# EAGLE library part LDD-SMHTA304RISITR (library LDD-SMHTA304RISITR)
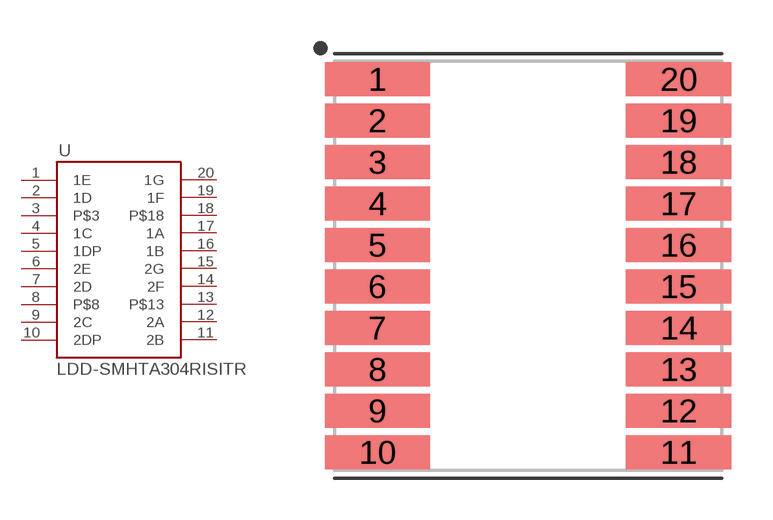
[diagram p0: symbol with the pads of LDD-SMHTA304RISITR-20DFN; footprint LDD-SMHTA304RISITR-20DFN]

Designator prefix -

## LDD-SMHTA304RISITR  [LDD-SMHTA304RISITR-20DFN]
1  1E
2  1D
3  P$3
4  1C
5  1DP
6  2E
7  2D
8  P$8
9  2C
10  2DP
11  2B
12  2A
13  P$13
14  2F
15  2G
16  1B
17  1A
18  P$18
19  1F
20  1G

## Footprint LDD-SMHTA304RISITR-20DFN (pad centres in mm)
20-SON (DFN), 1.50 mm pitch, 14.80 X 14.00 X 0.80 mm body 20-pin SON (DFN) package with 1.50 mm pitch with body size 14.80 X 14.00 X 0.80 mm
smd 3.812 x 1.232: 1 -5.45,6.75; 2 -5.45,5.25; 3 -5.45,3.75; 4 -5.45,2.25; 5 -5.45,0.75; 6 -5.45,-0.75; 7 -5.45,-2.25; 8 -5.45,-3.75; 9 -5.45,-5.25; 10 -5.45,-6.75; 11 5.45,-6.75; 12 5.45,-5.25; 13 5.45,-3.75; 14 5.45,-2.25; 15 5.45,-0.75; 16 5.45,0.75; 17 5.45,2.25; 18 5.45,3.75; 19 5.45,5.25; 20 5.45,6.75